# EAGLE library part EL5166ISZ (library Intersil_By_element14_Batch_1)
1.4GHz Current Feedback Amplifiers with Enable
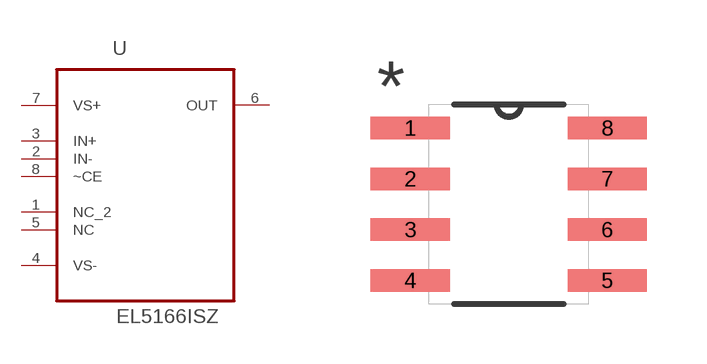
[diagram p59: symbol with the pads of SOIC127P600X175-8N; footprint SOIC127P600X175-8N]

Designator prefix U

## EL5166ISZ (MPN: EL5166ISZ; OC_FARNELL: 1562028; OC_NEWARK: 57K3257; PACKAGE: SOIC-8; SUPPLIER: INTERSIL)  [SOIC127P600X175-8N]
1  NC_2  nc
2  IN-  in
3  IN+  in
4  VS-  pwr
5  NC  nc
6  OUT  out
7  VS+  pwr
8  ~CE  in

## Footprint SOIC127P600X175-8N (pad centres in mm)
smd 1.981 x 0.559: 1 -2.464,1.905; 2 -2.464,0.635; 3 -2.464,-0.635; 4 -2.464,-1.905; 5 2.464,-1.905; 6 2.464,-0.635; 7 2.464,0.635; 8 2.464,1.905